# EAGLE library part 5M570ZT100 (library ORBiT-IC-CPLD-Intel-MAX_V)
5M570ZT100 edit this description Auto generated by make-symbol-device-package-bsdl.ulp Rev. 44 Source: 5M570ZT100.bsd
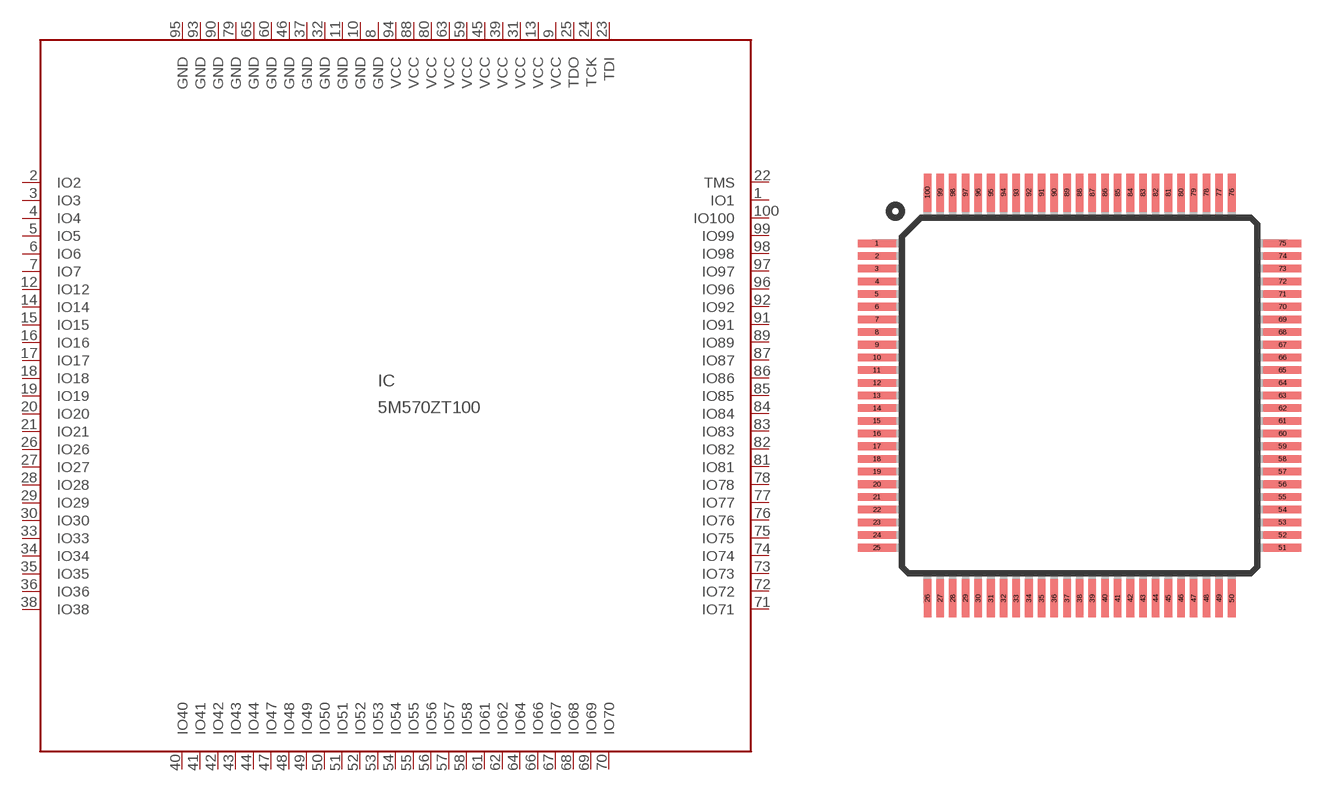
[diagram p2: symbol with the pads of TQFP100; footprint TQFP100]

Designator prefix IC

## 5M570ZT100  [TQFP100]
1  IO1
2  IO2
3  IO3
4  IO4
5  IO5
6  IO6
7  IO7
8  GND  pwr
9  VCC  pwr
10  GND  pwr
11  GND  pwr
12  IO12
13  VCC  pwr
14  IO14
15  IO15
16  IO16
17  IO17
18  IO18
19  IO19
20  IO20
21  IO21
22  TMS  in
23  TDI  in
24  TCK  in
25  TDO  out
26  IO26
27  IO27
28  IO28
29  IO29
30  IO30
31  VCC  pwr
32  GND  pwr
33  IO33
34  IO34
35  IO35
36  IO36
37  GND  pwr
38  IO38
39  VCC  pwr
40  IO40
41  IO41
42  IO42
43  IO43
44  IO44
45  VCC  pwr
46  GND  pwr
47  IO47
48  IO48
49  IO49
50  IO50
51  IO51
52  IO52
53  IO53
54  IO54
55  IO55
56  IO56
57  IO57
58  IO58
59  VCC  pwr
60  GND  pwr
61  IO61
62  IO62
63  VCC  pwr
64  IO64
65  GND  pwr
66  IO66
67  IO67
68  IO68
69  IO69
70  IO70
71  IO71
72  IO72
73  IO73
74  IO74
75  IO75
76  IO76
77  IO77
78  IO78
79  GND  pwr
80  VCC  pwr
81  IO81
82  IO82
83  IO83
84  IO84
85  IO85
86  IO86
87  IO87
88  VCC  pwr
89  IO89
90  GND  pwr
91  IO91
92  IO92
93  GND  pwr
94  VCC  pwr
95  GND  pwr
96  IO96
97  IO97
98  IO98
99  IO99
100  IO100

## Footprint TQFP100 (pad centres in mm)
100-lead Thin Quad Flat Pack Package Outline
smd 1.5 x 0.3: 1 -8,6; 2 -8,5.5; 3 -8,5; 4 -8,4.5; 5 -8,4; 6 -8,3.5; 7 -8,3; 8 -8,2.5; 9 -8,2; 10 -8,1.5; 11 -8,1; 12 -8,0.5; 13 -8,0; 14 -8,-0.5; 15 -8,-1; 16 -8,-1.5; 17 -8,-2; 18 -8,-2.5; 19 -8,-3; 20 -8,-3.5; 21 -8,-4; 22 -8,-4.5; 23 -8,-5; 24 -8,-5.5; 25 -8,-6; 51 8,-6; 52 8,-5.5; 53 8,-5; 54 8,-4.5; 55 8,-4; 56 8,-3.5; 57 8,-3; 58 8,-2.5; 59 8,-2; 60 8,-1.5; 61 8,-1; 62 8,-0.5; 63 8,0; 64 8,0.5; 65 8,1; 66 8,1.5; 67 8,2; 68 8,2.5; 69 8,3; 70 8,3.5; 71 8,4; 72 8,4.5; 73 8,5; 74 8,5.5; 75 8,6
smd 0.3 x 1.5: 26 -6,-8; 27 -5.5,-8; 28 -5,-8; 29 -4.5,-8; 30 -4,-8; 31 -3.5,-8; 32 -3,-8; 33 -2.5,-8; 34 -2,-8; 35 -1.5,-8; 36 -1,-8; 37 -0.5,-8; 38 0,-8; 39 0.5,-8; 40 1,-8; 41 1.5,-8; 42 2,-8; 43 2.5,-8; 44 3,-8; 45 3.5,-8; 46 4,-8; 47 4.5,-8; 48 5,-8; 49 5.5,-8; 50 6,-8; 76 6,8; 77 5.5,8; 78 5,8; 79 4.5,8; 80 4,8; 81 3.5,8; 82 3,8; 83 2.5,8; 84 2,8; 85 1.5,8; 86 1,8; 87 0.5,8; 88 0,8; 89 -0.5,8; 90 -1,8; 91 -1.5,8; 92 -2,8; 93 -2.5,8; 94 -3,8; 95 -3.5,8; 96 -4,8; 97 -4.5,8; 98 -5,8; 99 -5.5,8; 100 -6,8